# Altium schematic symbol library Fixed Inductors.SchLib: 18 symbols
Pins are listed as number, name and electrical type; pins without a type are passive.

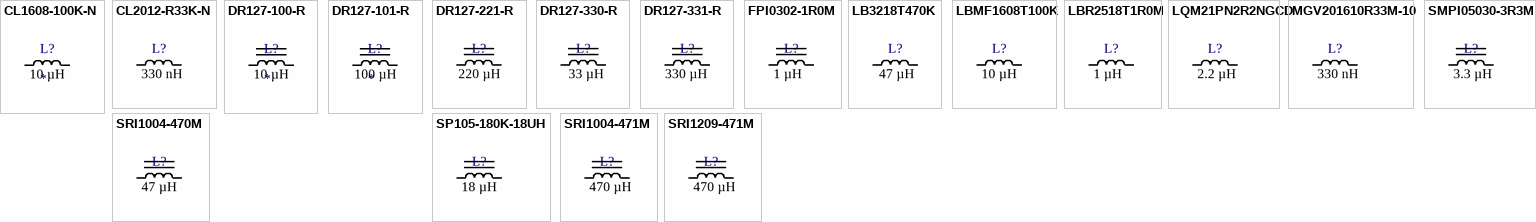
[diagram p0: symbols CL1608-100K-N to SRI1209-471M]

## CL1608-100K-N
designator L?  Inductance: 10 µH
FIXED IND 10UH 15MA 2.55 OHM SMD
footprint CORE_0603_095
pins: 1, 2

## CL2012-R33K-N
designator L?  Inductance: 330 nH  (hidden comment: *)
FIXED IND 330NH 250MA 550 MOHM SMD
footprint CORE_0805_110
pins: 1, 2

## DR127-100-R
designator L?  Inductance: 10 µH
FIXED IND 10UH 6.04A 17.2 MOHM; Supplier 1: Digi-Key; Supplier 2: Farnell; Supplier 3: Mouser; Supplier Part Number 1: 513-1037-1-ND; Supplier Part Number 2: 1463477; Supplier Part Number 3: 704-DR127-100-R
footprint EATON_DR127
pins: 1, 2

## DR127-101-R
designator L?  Inductance: 100 µH
FIXED IND 100UH 1.96A 163 MOHM; Supplier 1: Digi-Key; Supplier 2: Farnell; Supplier 3: Mouser; Supplier 4: Arrow Electronics; Supplier Part Number 1: 513-1038-1-ND; Supplier Part Number 2: 3650504; Supplier Part Number 3: 704-DR127-101-R; Supplier Part Number 4: DR127-101-R
footprint EATON_DR127
pins: 1, 2

## DR127-221-R
designator L?  Inductance: 220 µH  (hidden comment: *)
FIXED IND 220UH 1.29A 376 MOHM; Supplier 1: Digi-Key; Supplier 2: Farnell; Supplier 3: Mouser; Supplier 4: Arrow Electronics; Supplier Part Number 1: 513-1045-1-ND; Supplier Part Number 2: 1612100; Supplier Part Number 3: 704-DR127-221-R; Supplier Part Number 4: DR127-221-R
footprint EATON_DR127
pins: 1, 2

## DR127-330-R
designator L?  Inductance: 33 µH  (hidden comment: *)
FIXED IND 33UH 3.23A 60 MOHM SMD; Supplier 1: Digi-Key; Supplier 2: Farnell; Supplier 3: Mouser; Supplier 4: Arrow Electronics; Supplier Part Number 1: 513-1047-1-ND; Supplier Part Number 2: 1463520; Supplier Part Number 3: 704-DR127-330-R; Supplier Part Number 4: DR127-330-R
footprint EATON_DR127
pins: 1, 2

## DR127-331-R
designator L?  Inductance: 330 µH  (hidden comment: *)
FIXED IND 330UH 1.04A 574 MOHM; Supplier 1: Digi-Key; Supplier 2: Farnell; Supplier 3: Mouser; Supplier 4: Arrow Electronics; Supplier Part Number 1: 513-1048-1-ND; Supplier Part Number 2: 2075610; Supplier Part Number 3: 704-DR127-331-R; Supplier Part Number 4: DR127-331-R
footprint EATON_DR127
pins: 1, 2

## FPI0302-1R0M
designator L?  Inductance: 1 µH  (hidden comment: *)
FIXED IND 1UH 4A 40 MOHM
footprint CORE_FPI0302
pins: 1, 2

## LB3218T470K
designator L?  Inductance: 47 µH  (hidden comment: *)
FIXED IND 47UH 205MA 920 MOHM; Supplier 1: Digi-Key; Supplier 2: Mouser; Supplier Part Number 1: 587-2037-1-ND; Supplier Part Number 2: 963-LB3218T470K
footprint TAIYO_1207_200
pins: 1, 2

## LBMF1608T100K
designator L?  Inductance: 10 µH  (hidden comment: *)
FIXED IND 10UH 80MA 360 MOHM SMD; Supplier 1: Digi-Key; Supplier 2: Farnell; Supplier 3: Mouser; Supplier Part Number 1: 587-1714-1-ND; Supplier Part Number 2: 1786105; Supplier Part Number 3: 963-LBMF1608T100K
footprint TAIYO_0603_100
pins: 1, 2

## LBR2518T1R0M
designator L?  Inductance: 1 µH  (hidden comment: *)
FIXED IND 1UH 960MA 45 MOHM SMD; Supplier 1: Digi-Key; Supplier 2: Mouser; Supplier 3: Arrow Electronics; Supplier Part Number 1: 587-2049-1-ND; Supplier Part Number 2: 963-LBR2518T1R0M; Supplier Part Number 3: LBR2518T1R0M
footprint TAIYO_1007_200
pins: 1, 2

## LQM21PN2R2NGCD
designator L?  Inductance: 2.2 µH  (hidden comment: *)
FIXED IND 2.2UH 800MA 288MOHM SMD; Supplier 1: Digi-Key; Supplier 2: Farnell; Supplier 3: Mouser; Supplier 4: Arrow Electronics; Supplier Part Number 1: 490-7781-1-ND; Supplier Part Number 2: 2470293; Supplier Part Number 3: 81-LQM21PN2R2NGCDCD; Supplier Part Number 4: LQM21PN2R2NGCD
footprint MURATA_0805_100
pins: 1, 2

## MGV201610R33M-10
designator L?  Inductance: 330 nH  (hidden comment: *)
FIXED IND 330NH 4.1A 29MOHM SMD; Supplier 1: Digi-Key; Supplier Part Number 1: 240-3059-1-ND
footprint LAIRD_MGV2016
pins: 1, 2

## SMPI05030-3R3M
designator L?  Inductance: 3.3 µH  (hidden comment: *)
FIXED IND 3.3UH 8A 38MOHM SMD
footprint CORE_SMPI05030
pins: 1, 2

## SP105-180K-18UH
designator L?  Inductance: 18 µH  (hidden comment: *)
FIXED IND 18UH 2.15A 90 MOHM
footprint CODACA_SP105
pins: 1, 2

## SRI1004-470M
designator L?  Inductance: 47 µH  (hidden comment: *)
FIXED IND 47UH 2A 230 MOHM
footprint CORE_SRI1004
pins: 1, 2

## SRI1004-471M
designator L?  Inductance: 470 µH  (hidden comment: *)
FIXED IND 470UH 0.72A 1.23 OHM
footprint CORE_SRI1004
pins: 1, 2

## SRI1209-471M
designator L?  Inductance: 470 µH  (hidden comment: *)
FIXED IND 470UH 1.5A 490 MOHM
footprint CORE_SRI1209
pins: 1, 2